# EAGLE library part PCA9548A (library BEEP)
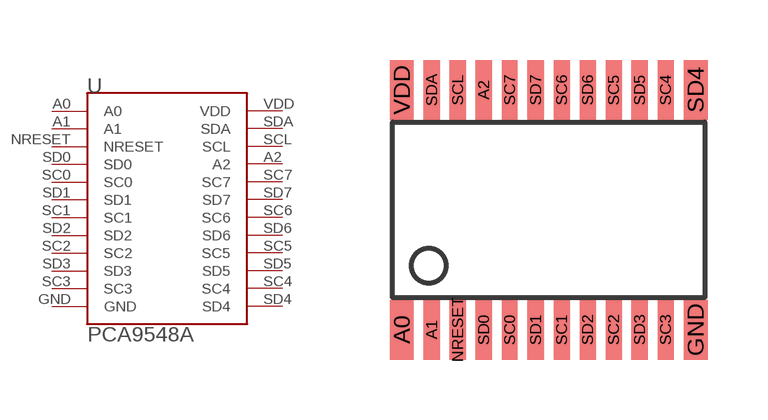
[diagram p0: symbol with the pads of TSSOP24; footprint TSSOP24]

Designator prefix -

## PCA9548A  [TSSOP24]
A0  A0  in
A1  A1  in
A2  A2
GND  GND  pwr
NRESET  NRESET  in
SC0  SC0
SC1  SC1
SC2  SC2
SC3  SC3
SC4  SC4
SC5  SC5
SC6  SC6
SC7  SC7
SCL  SCL
SD0  SD0
SD1  SD1
SD2  SD2
SD3  SD3
SD4  SD4
SD5  SD5
SD6  SD6
SD7  SD7
SDA  SDA
VDD  VDD  pwr

## Footprint TSSOP24 (pad centres in mm)
TSSOP 24 Source: PCA9548A Datasheet
smd 0.6 x 1.5: A0 -3.675,-3; GND 3.675,-3; SD4 3.675,3; VDD -3.675,3
smd 0.4 x 1.5: A1 -2.925,-3; A2 -1.625,3; NRESET -2.275,-3; SC0 -0.975,-3; SC1 0.325,-3; SC2 1.625,-3; SC3 2.925,-3; SC4 2.925,3; SC5 1.625,3; SC6 0.325,3; SC7 -0.975,3; SCL -2.275,3; SD0 -1.625,-3; SD1 -0.325,-3; SD2 0.975,-3; SD3 2.275,-3; SD5 2.275,3; SD6 0.975,3; SD7 -0.325,3; SDA -2.925,3